# Altium schematic symbol library RF_Attenuators.SchLib: 24 symbols
Pins are listed as number, name and electrical type; pins without a type are passive.

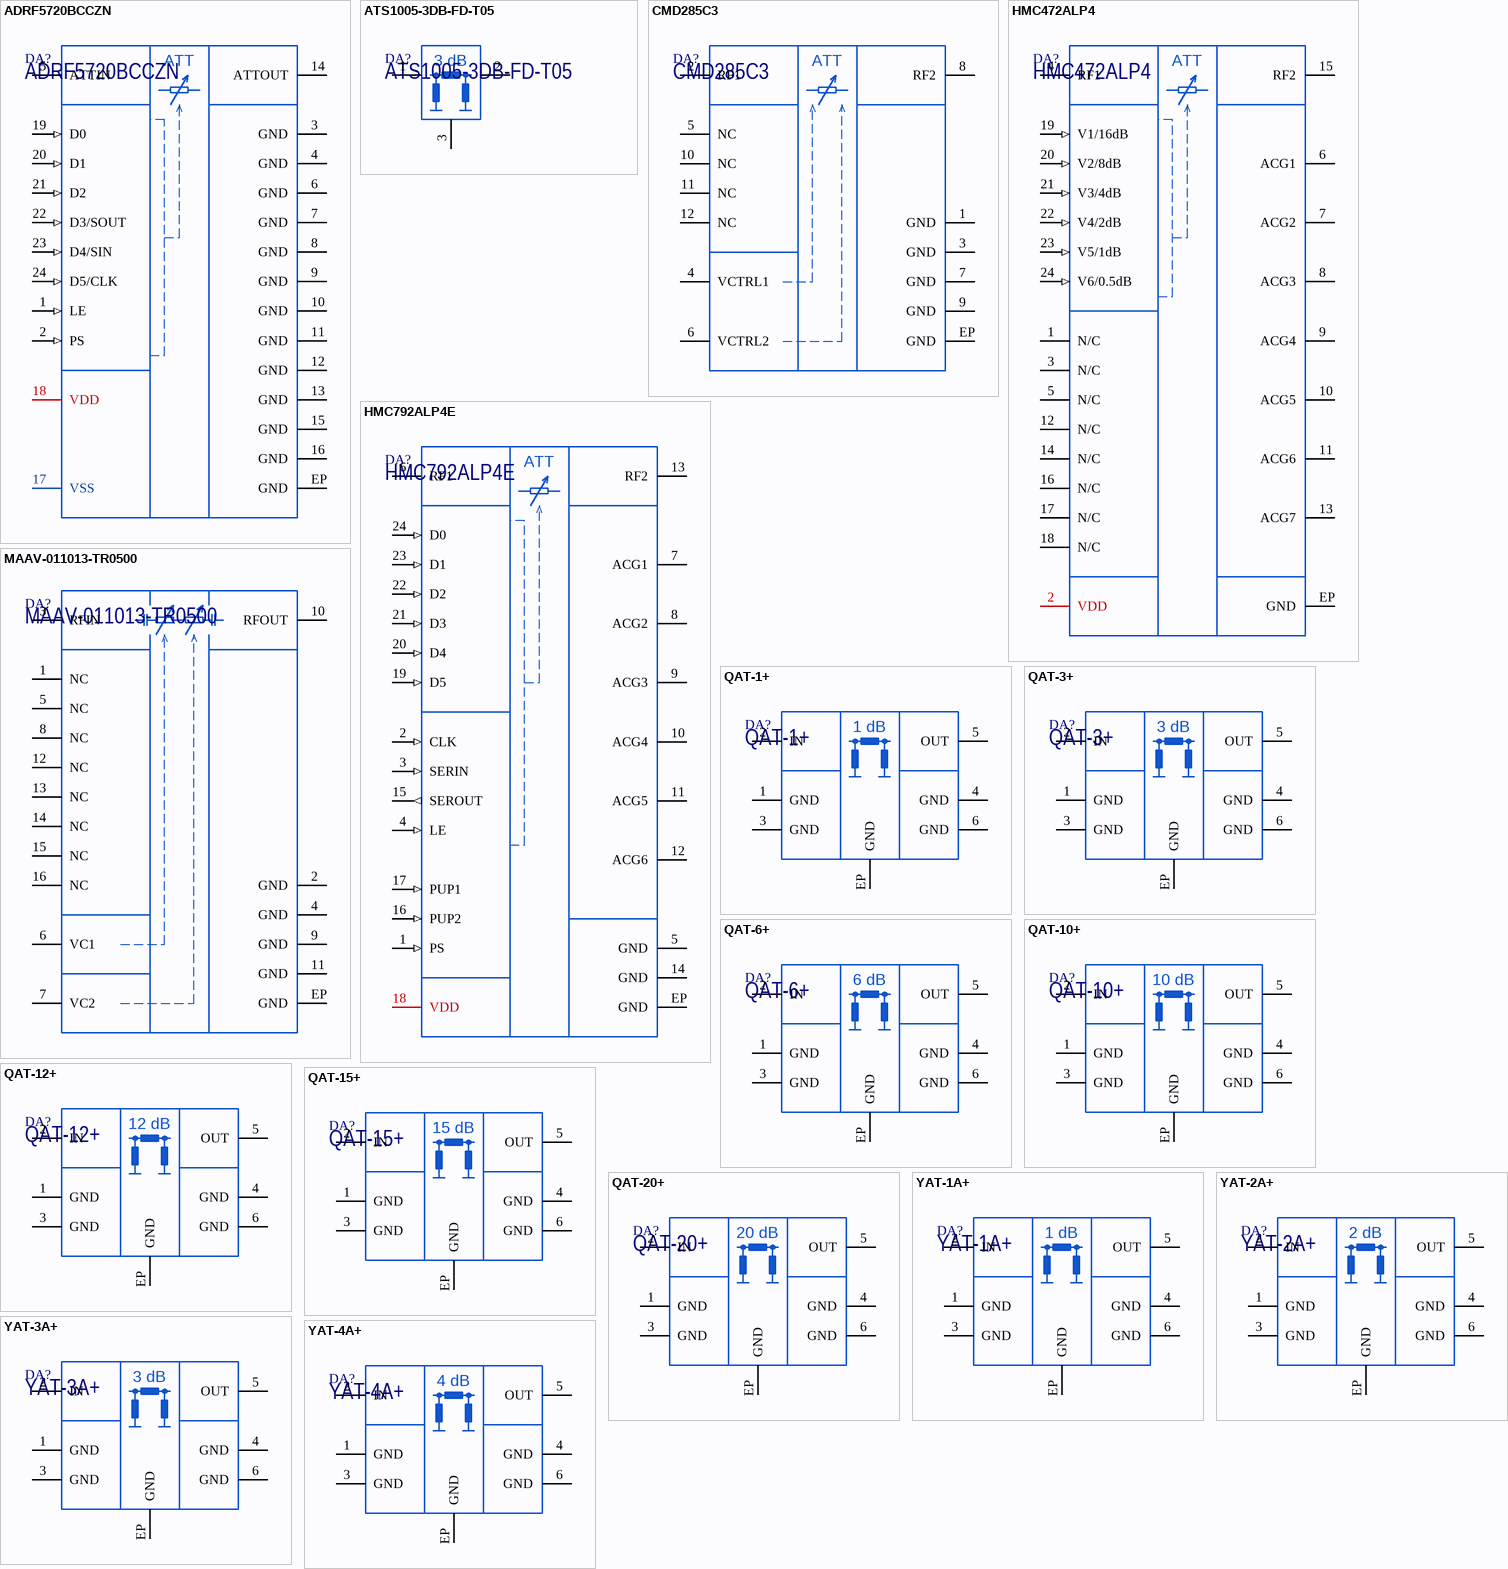
[diagram p0: symbols ADRF5720BCCZN to YAT-4A+]

## ADRF5720BCCZN
designator DA?
6-Bit, Silicon Digital Attenuator, 9 kHz to 40 GHz; Manufacturer: Analog Devices; ItemType: IC; Package: LGA-24; PartNumber: ADRF5720BCCZN; ItemSubType: Attenuator; Mounting: SMD
footprint LGA-24(CC-24-5) (LGA, 24-Leads, Body 4x4mm, Pitch 0.50mm, Thermal Pad 2.50x2.50mm)
pins: 1 LE (in), 2 PS (in), 3 GND, 4 GND, 5 ATTIN, 6 GND, 7 GND, 8 GND, 9 GND, 10 GND, 11 GND, 12 GND, 13 GND, 14 ATTOUT, 15 GND, 16 GND, 17 VSS, 18 VDD, 19 D0 (in), 20 D1 (in), 21 D2 (in), 22 D3/SOUT (in), 23 D4/SIN (in), 24 D5/CLK (in), EP GND
text: ATT

## ATS1005-3DB-FD-T05
designator DA?
32mW 3dB Fixed Attenuator DC to 50 GHz; Manufacturer: Susumu; ItemType: IC; Package: 0402; PartNumber: ATS1005-3DB-FD-T05; ItemSubType: Attenuator; Mounting: SMD
footprint ATS1005-3DB-FD-T05 (Minicircuits CD636 case style)
pins: 1 IN (power), 2 OUT (power), 3 GND
text: 3 dB

## CMD285C3
designator DA?
DC-20 GHz Voltage-Variable Attenuator; Manufacturer: Qorvo; Marking: 285; ItemType: IC; Package: LCC-12; PartNumber: CMD285C3; ItemSubType: Attenuator; Mounting: SMD
footprint LCC12_CMD285C3 (LCC, 12-Leads, Body 2.9x2.9mm, Pitch 0.50mm, Thermal Pad 1.50x1.50mm)
pins: 1 GND, 2 RF1, 3 GND, 4 VCTRL1, 5 NC, 6 VCTRL2, 7 GND, 8 RF2, 9 GND, 10 NC, 11 NC, 12 NC, EP GND
text: ATT

## HMC472ALP4
designator DA?
0.5 dB LSB GaAs MMIC 6-Bit Digital Positive Control Attenuator, DC - 3.8 GHz; Manufacturer: Analog Devices; Marking: H472A; ItemType: IC; Package: LGA-24; PartNumber: HMC472ALP4; ItemSubType: Attenuator; Mounting: SMD
footprint LFCSP-24(CP-24-16) (QFN, 24-Leads, Body 4x4mm, Pitch 0.50mm, Thermal Pad 2.70x2.70mm. Compliant to JEDEC standards MO-220-VGGD-6)
pins: 1 N/C, 2 VDD, 3 N/C, 4 RF1, 5 N/C, 6 ACG1, 7 ACG2, 8 ACG3, 9 ACG4, 10 ACG5, 11 ACG6, 12 N/C, 13 ACG7, 14 N/C, 15 RF2, 16 N/C, 17 N/C, 18 N/C, 19 V1/16dB (in), 20 V2/8dB (in), 21 V3/4dB (in), 22 V4/2dB (in), 23 V5/1dB (in), 24 V6/0.5dB (in), EP GND
text: ATT

## HMC792ALP4E
designator DA?
0.25 LSB GaAs MMIC 6-Bit Digital Attenuator, DC - 6 GHz; Manufacturer: Analog Devices; Marking: H792A; ItemType: IC; Package: QFN-24; PartNumber: HMC792ALP4E; ItemSubType: Attenuator; Mounting: SMD
footprint QFN24_HMC792A (QFN 24-leads 4mm x 4mm, 0.5mm pitch)
pins: 1 PS (in), 2 CLK (in), 3 SERIN (in), 4 LE (in), 5 GND, 6 RF1, 7 ACG1, 8 ACG2, 9 ACG3, 10 ACG4, 11 ACG5, 12 ACG6, 13 RF2, 14 GND, 15 SEROUT (out), 16 PUP2 (in), 17 PUP1 (in), 18 VDD, 19 D5 (in), 20 D4 (in), 21 D3 (in), 22 D2 (in), 23 D1 (in), 24 D0 (in), EP GND
text: ATT

## MAAV-011013-TR0500
designator DA?
5 - 45 GHz Voltage-Variable Attenuator; Manufacturer: Macom; Marking: M7; ItemType: IC; Package: PQFN-16; PartNumber: MAAV-011013-TR0500; ItemSubType: Attenuator; Mounting: SMD
footprint PQFN16_MAAV011013
pins: 1 NC, 2 GND, 3 RFIN, 4 GND, 5 NC, 6 VC1, 7 VC2, 8 NC, 9 GND, 10 RFOUT, 11 GND, 12 NC, 13 NC, 14 NC, 15 NC, 16 NC, EP GND

## QAT-1+
designator DA?
2W 1dB Fixed Attenuator DC to 50 GHz; Manufacturer: Mini-Circuits; Marking: QT01; ItemType: IC; Package: MC3000; PartNumber: QAT-1+; ItemSubType: Attenuator; Mounting: SMD
footprint MC3000 (Mini-Circuits MC3000 Case Style)
pins: 1 GND, 2 IN (power), 3 GND, 4 GND, 5 OUT (power), 6 GND, EP GND
text: 1 dB

## QAT-3+
designator DA?
2W 3dB Fixed Attenuator DC to 50 GHz; Manufacturer: Mini-Circuits; Marking: QT03; ItemType: IC; Package: MC3000; PartNumber: QAT-3+; ItemSubType: Attenuator; Mounting: SMD
footprint MC3000 (Mini-Circuits MC3000 Case Style)
pins: 1 GND, 2 IN (power), 3 GND, 4 GND, 5 OUT (power), 6 GND, EP GND
text: 3 dB

## QAT-6+
designator DA?
1.6W 6dB Fixed Attenuator DC to 50 GHz; Manufacturer: Mini-Circuits; Marking: QT06; ItemType: IC; Package: MC3000; PartNumber: QAT-6+; ItemSubType: Attenuator; Mounting: SMD
footprint MC3000 (Mini-Circuits MC3000 Case Style)
pins: 1 GND, 2 IN (power), 3 GND, 4 GND, 5 OUT (power), 6 GND, EP GND
text: 6 dB

## QAT-10+
designator DA?
1.7W 10dB Fixed Attenuator DC to 50 GHz; Manufacturer: Mini-Circuits; Marking: QT10; ItemType: IC; Package: MC3000; PartNumber: QAT-10+; ItemSubType: Attenuator; Mounting: SMD
footprint MC3000 (Mini-Circuits MC3000 Case Style)
pins: 1 GND, 2 IN (power), 3 GND, 4 GND, 5 OUT (power), 6 GND, EP GND
text: 10 dB

## QAT-12+
designator DA?
1.1W 12dB Fixed Attenuator DC to 50 GHz; Manufacturer: Mini-Circuits; Marking: QT12; ItemType: IC; Package: MC3000; PartNumber: QAT-12+; ItemSubType: Attenuator; Mounting: SMD
footprint MC3000 (Mini-Circuits MC3000 Case Style)
pins: 1 GND, 2 IN (power), 3 GND, 4 GND, 5 OUT (power), 6 GND, EP GND
text: 12 dB

## QAT-15+
designator DA?
1.4W 15dB Fixed Attenuator DC to 50 GHz; Manufacturer: Mini-Circuits; Marking: QT15; ItemType: IC; Package: MC3000; PartNumber: QAT-15+; ItemSubType: Attenuator; Mounting: SMD
footprint MC3000 (Mini-Circuits MC3000 Case Style)
pins: 1 GND, 2 IN (power), 3 GND, 4 GND, 5 OUT (power), 6 GND, EP GND
text: 15 dB

## QAT-20+
designator DA?
0.8W 20dB Fixed Attenuator DC to 50 GHz; Manufacturer: Mini-Circuits; Marking: QT20; ItemType: IC; Package: MC3000; PartNumber: QAT-20+; ItemSubType: Attenuator; Mounting: SMD
footprint MC3000 (Mini-Circuits MC3000 Case Style)
pins: 1 GND, 2 IN (power), 3 GND, 4 GND, 5 OUT (power), 6 GND, EP GND
text: 20 dB

## YAT-1A+
designator DA?
2W 1dB Fixed Attenuator DC to 18 GHz; Manufacturer: Mini-Circuits; Marking: YT01; ItemType: IC; Package: MC1630; PartNumber: YAT-1A+; ItemSubType: Attenuator; Mounting: SMD
footprint MC1630 (MC1630 Minicircuits case style)
pins: 1 GND, 2 IN (power), 3 GND, 4 GND, 5 OUT (power), 6 GND, EP GND
text: 1 dB

## YAT-2A+
designator DA?
2W 2dB Fixed Attenuator DC to 18 GHz; Manufacturer: Mini-Circuits; Marking: YT02; ItemType: IC; Package: MC1630; PartNumber: YAT-2A+; ItemSubType: Attenuator; Mounting: SMD
footprint MC1630 (MC1630 Minicircuits case style)
pins: 1 GND, 2 IN (power), 3 GND, 4 GND, 5 OUT (power), 6 GND, EP GND
text: 2 dB

## YAT-3A+
designator DA?
2W 3dB Fixed Attenuator DC to 18 GHz; Manufacturer: Mini-Circuits; Marking: YT03; ItemType: IC; Package: MC1630; PartNumber: YAT-3A+; ItemSubType: Attenuator; Mounting: SMD
footprint MC1630 (MC1630 Minicircuits case style)
pins: 1 GND, 2 IN (power), 3 GND, 4 GND, 5 OUT (power), 6 GND, EP GND
text: 3 dB

## YAT-4A+
designator DA?
1.7W 4dB Fixed Attenuator DC to 18 GHz; Manufacturer: Mini-Circuits; Marking: YT04; ItemType: IC; Package: MC1630; PartNumber: YAT-4A+; ItemSubType: Attenuator; Mounting: SMD
footprint MC1630 (MC1630 Minicircuits case style)
pins: 1 GND, 2 IN (power), 3 GND, 4 GND, 5 OUT (power), 6 GND, EP GND
text: 4 dB

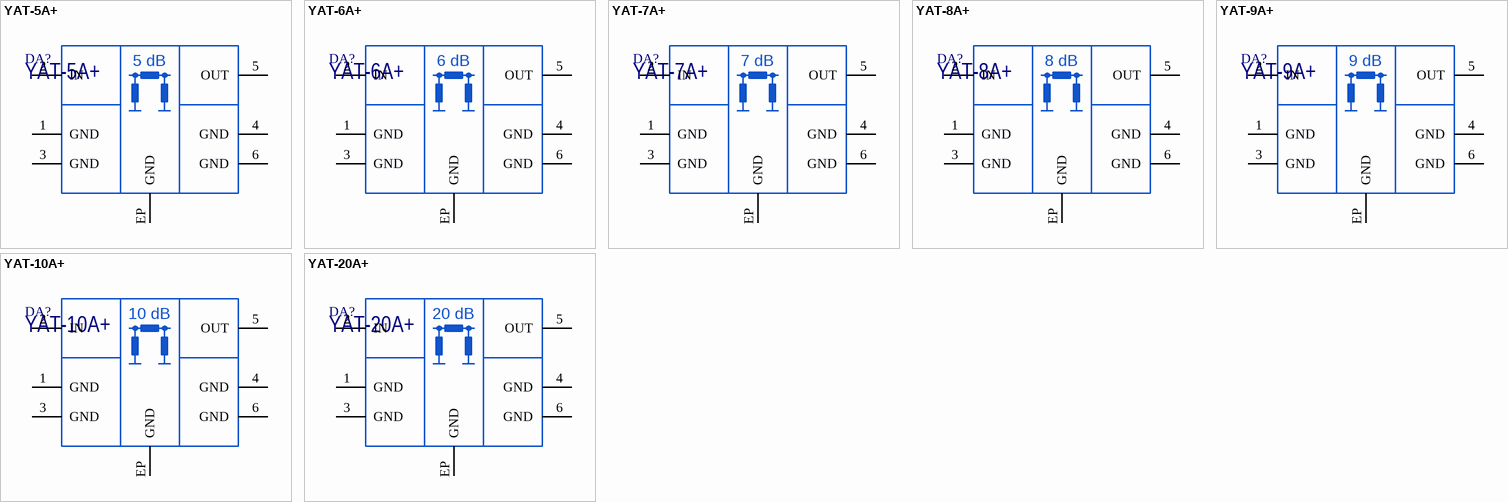
[diagram p1: symbols YAT-5A+ to YAT-20A+]

## YAT-5A+
designator DA?
1.4W 5dB Fixed Attenuator DC to 18 GHz; Manufacturer: Mini-Circuits; Marking: YT05; ItemType: IC; Package: MC1630; PartNumber: YAT-5A+; ItemSubType: Attenuator; Mounting: SMD
footprint MC1630 (MC1630 Minicircuits case style)
pins: 1 GND, 2 IN (power), 3 GND, 4 GND, 5 OUT (power), 6 GND, EP GND
text: 5 dB

## YAT-6A+
designator DA?
1.6W 6dB Fixed Attenuator DC to 18 GHz; Manufacturer: Mini-Circuits; Marking: YT06; ItemType: IC; Package: MC1630; PartNumber: YAT-6A+; ItemSubType: Attenuator; Mounting: SMD
footprint MC1630 (MC1630 Minicircuits case style)
pins: 1 GND, 2 IN (power), 3 GND, 4 GND, 5 OUT (power), 6 GND, EP GND
text: 6 dB

## YAT-7A+
designator DA?
1.3W 7dB Fixed Attenuator DC to 18 GHz; Manufacturer: Mini-Circuits; Marking: YT07; ItemType: IC; Package: MC1630; PartNumber: YAT-7A+; ItemSubType: Attenuator; Mounting: SMD
footprint MC1630 (MC1630 Minicircuits case style)
pins: 1 GND, 2 IN (power), 3 GND, 4 GND, 5 OUT (power), 6 GND, EP GND
text: 7 dB

## YAT-8A+
designator DA?
1.2W 8dB Fixed Attenuator DC to 18 GHz; Manufacturer: Mini-Circuits; Marking: YT08; ItemType: IC; Package: MC1630; PartNumber: YAT-8A+; ItemSubType: Attenuator; Mounting: SMD
footprint MC1630 (MC1630 Minicircuits case style)
pins: 1 GND, 2 IN (power), 3 GND, 4 GND, 5 OUT (power), 6 GND, EP GND
text: 8 dB

## YAT-9A+
designator DA?
1.1W 9dB Fixed Attenuator DC to 18 GHz; Manufacturer: Mini-Circuits; Marking: YT09; ItemType: IC; Package: MC1630; PartNumber: YAT-9A+; ItemSubType: Attenuator; Mounting: SMD
footprint MC1630 (MC1630 Minicircuits case style)
pins: 1 GND, 2 IN (power), 3 GND, 4 GND, 5 OUT (power), 6 GND, EP GND
text: 9 dB

## YAT-10A+
designator DA?
1.7W 10dB Fixed Attenuator DC to 18 GHz; Manufacturer: Mini-Circuits; Marking: YT10; ItemType: IC; Package: MC1630; PartNumber: YAT-10A+; ItemSubType: Attenuator; Mounting: SMD
footprint MC1630 (MC1630 Minicircuits case style)
pins: 1 GND, 2 IN (power), 3 GND, 4 GND, 5 OUT (power), 6 GND, EP GND
text: 10 dB

## YAT-20A+
designator DA?
0.8W 20dB Fixed Attenuator DC to 18 GHz; Manufacturer: Mini-Circuits; Marking: YT20; ItemType: IC; Package: MC1630; PartNumber: YAT-20A+; ItemSubType: Attenuator; Mounting: SMD
footprint MC1630 (MC1630 Minicircuits case style)
pins: 1 GND, 2 IN (power), 3 GND, 4 GND, 5 OUT (power), 6 GND, EP GND
text: 20 dB